# Altium schematic symbol library TIA_PARTS.SchLib: 4 symbols
Pins are listed as number, name and electrical type; pins without a type are passive.

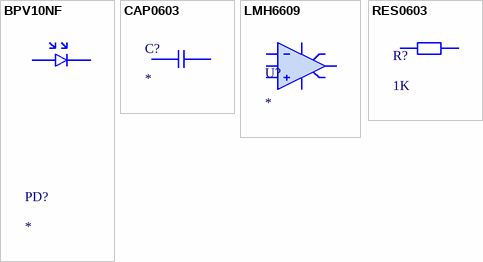
[diagram p0: symbols BPV10NF to RES0603]

## BPV10NF
designator PD?
pins: 1 Anode, 2 Cathode

## CAP0603
designator C?
pins: 1, 2

## LMH6609
designator U?
pins: 1 N/C, 2 INN, 3 INP, 4 VSN, 5 N/C, 6 OUT, 7 VSP, 8 N/C

## RES0603
designator R?, comment 1K
pins: 1, 2